# EAGLE library part SEEEDUINO_MEGA_SHIELD (library RepRapjr)
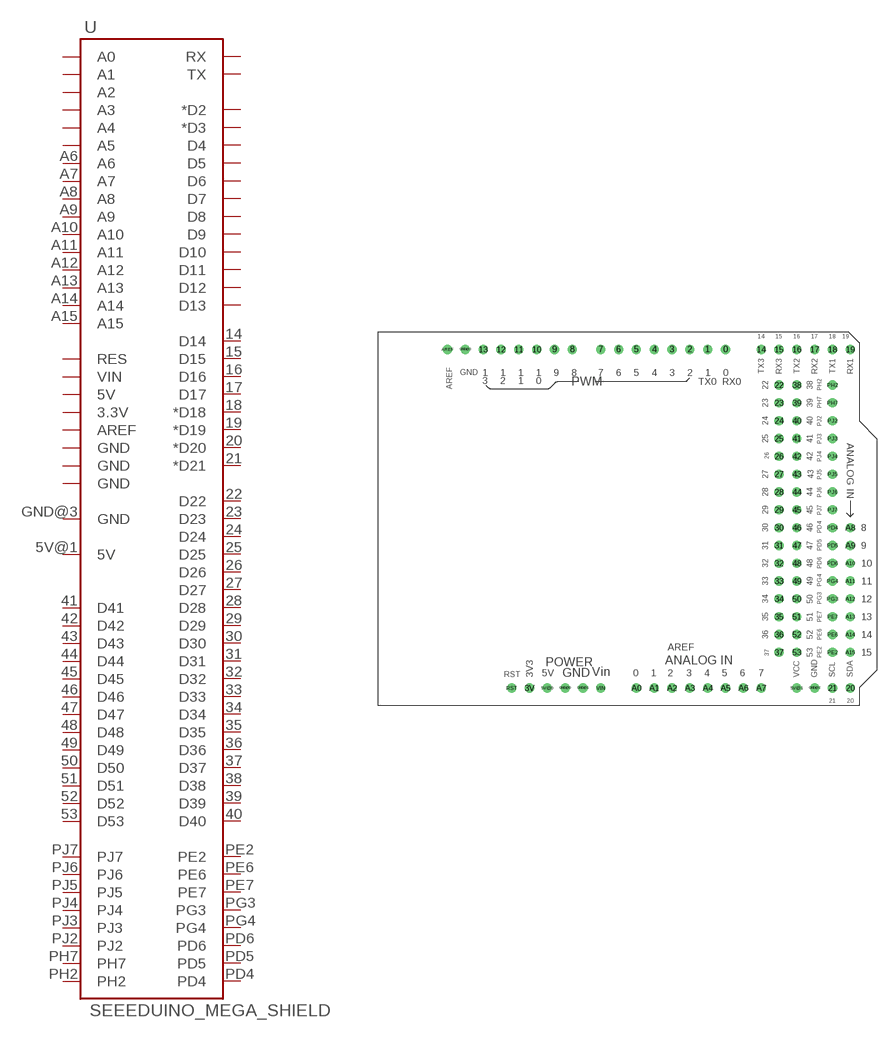
[diagram p2: symbol with the pads of SEEEDUINO_MEGA_SHIELD; footprint SEEEDUINO_MEGA_SHIELD]

Designator prefix -

## SEEEDUINO_MEGA_SHIELD  [SEEEDUINO_MEGA_SHIELD]
0  RX
1  TX
2  *D2
3  *D3
3V  3.3V
4  D4
5  D5
5V@0  5V  pwr
5V@1  5V  sup
6  D6
7  D7
8  D8
9  D9
10  D10
11  D11
12  D12
13  D13
14  D14
15  D15
16  D16
17  D17
18  *D18
19  *D19
20  *D20
21  *D21
22  D22
23  D23
24  D24
25  D25
26  D26
27  D27
28  D28
29  D29
30  D30
31  D31
32  D32
33  D33
34  D34
35  D35
36  D36
37  D37
38  D38
39  D39
40  D40
41  D41
42  D42
43  D43
44  D44
45  D45
46  D46
47  D47
48  D48
49  D49
50  D50
51  D51
52  D52
53  D53
A0  A0
A1  A1
A2  A2
A3  A3
A4  A4
A5  A5
A6  A6
A7  A7
A8  A8
A9  A9
A10  A10
A11  A11
A12  A12
A13  A13
A14  A14
A15  A15
AREF  AREF
GND@0  GND  sup
GND@1  GND  sup
GND@2  GND  sup
GND@3  GND  sup
PD4  PD4
PD5  PD5
PD6  PD6
PE2  PE2
PE6  PE6
PE7  PE7
PG3  PG3
PG4  PG4
PH2  PH2
PH7  PH7
PJ2  PJ2
PJ3  PJ3
PJ4  PJ4
PJ5  PJ5
PJ6  PJ6
PJ7  PJ7
RST  RES
VIN  VIN

## Footprint SEEEDUINO_MEGA_SHIELD (pad centres in mm)
drill 0.8: 0 49.53,50.8; 1 46.99,50.8; 2 44.45,50.8; 3 41.91,50.8; 3V 21.59,2.54; 4 39.37,50.8; 5 36.83,50.8; 5V@0 24.13,2.54; 5V@1 59.69,2.54; 6 34.29,50.8; 7 31.75,50.8; 8 27.686,50.8; 9 25.146,50.8; 10 22.606,50.8; 11 20.066,50.8; 12 17.526,50.8; 13 14.986,50.8; 14 54.61,50.8; 15 57.15,50.8; 16 59.69,50.8; 17 62.23,50.8; 18 64.77,50.8; 19 67.31,50.8; 20 67.31,2.54; 21 64.77,2.54; 22 57.15,45.72; 23 57.15,43.18; 24 57.15,40.64; 25 57.15,38.1; 26 57.15,35.56; 27 57.15,33.02; 28 57.15,30.48; 29 57.15,27.94; 30 57.15,25.4; 31 57.15,22.86; 32 57.15,20.32; 33 57.15,17.78; 34 57.15,15.24; 35 57.15,12.7; 36 57.15,10.16; 37 57.15,7.62; 38 59.69,45.72; 39 59.69,43.18; 40 59.69,40.64; 41 59.69,38.1; 42 59.69,35.56; 43 59.69,33.02; 44 59.69,30.48; 45 59.69,27.94; 46 59.69,25.4; 47 59.69,22.86; 48 59.69,20.32; 49 59.69,17.78; 50 59.69,15.24; 51 59.69,12.7; 52 59.69,10.16; 53 59.69,7.62; A0 36.83,2.54; A1 39.37,2.54; A2 41.91,2.54; A3 44.45,2.54; A4 46.99,2.54; A5 49.53,2.54; A6 52.07,2.54; A7 54.61,2.54; A8 67.31,25.4; A9 67.31,22.86; A10 67.31,20.32; A11 67.31,17.78; A12 67.31,15.24; A13 67.31,12.7; A14 67.31,10.16; A15 67.31,7.62; AREF 9.906,50.8; GND@0 26.67,2.54; GND@1 29.21,2.54; GND@2 62.23,2.54; GND@3 12.446,50.8; PD4 64.77,25.4; PD5 64.77,22.86; PD6 64.77,20.32; PE2 64.77,7.62; PE6 64.77,10.16; PE7 64.77,12.7; PG3 64.77,15.24; PG4 64.77,17.78; PH2 64.77,45.72; PH7 64.77,43.18; PJ2 64.77,40.64; PJ3 64.77,38.1; PJ4 64.77,35.56; PJ5 64.77,33.02; PJ6 64.77,30.48; PJ7 64.77,27.94; RST 19.05,2.54; VIN 31.75,2.54